# Altium schematic symbol library Schlib1.SchLib: 1 symbol
Pins are listed as number, name and electrical type; pins without a type are passive.

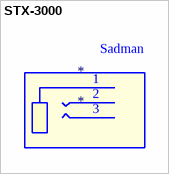
[diagram p0: symbol STX-3000]

## STX-3000
designator *
3 Pole(s), Female, Surface Mount Terminal, Locking, Jack; Manufacturer: Kycon; Connector Type: AUDIO/RCA CONNECTOR; Option: General Purpose; Additional Feature: ROHS COMPLIANT; Board Mounting Option: SOLDERABLE RETENTION CLIPS; Contact Resistance: 60mR; Contact Style: RND PIN-SKT; Dielectric Withstanding Voltage (AC): 350V; Durability: 5000Cycles; Insertion Force-Max: 3.9198N; Insulation Resistance: 100MR; Number Of Connectors: 1; Number of Poles: 3; Polarization Key: POLARIZED HOUSING; Withdrawl Force-Min: 2.9468N; Body Breadth: 0.213inch; Body Depth: 0.551inch; Body Length: 0.283inch; Reference Standard: UL; DIN Conformance: No; Reliability: COMMERCIAL; Supplier: Digikey; Supplier Part Number: 2092-STX-3000-ND; Manufacturer Part Number: STX-3000; RoHS: Yes; Category: Connectors; Stock: 64025; Pricing: 1=0.95, 10=0.727, 25=0.6536, 50=0.6036, 100=0.5579, 250=0.50376, 500=0.46714, 1000=0.4339, 3000=0.38746 (USD); Mounting Technology: Board; Contact Finish - Mating: NOT SPECIFIED; Contact Finish - Termination: MATTE TIN; Min Operating Temperature: -25°C; Max Operating Temperature: 80°C; JESD-609 Code: e3; Body/Shell Style: JACK; Contact Gender: Female; Mounting Style: RIGHT ANGLE; Number of Ports: 1; Termination: SMD/SMT; Mounting Option 1: LOCKING; Terminal Length: 0.11inch; Reach SVHC Compliant: Yes; RoHS Compliant: Yes; IEC Conformance: No; MIL Conformance: No; ComponentLink1URL: https://datasheet.ciiva.com:443/pdfs/VipMasterIC/IC/KYCO/KYCO-S-A0001347542/KYCO-S-A0002374289-1.pdf?src-supplier=IHS+Markit; ComponentLink1Description: https://datasheet.ciiva.com:443/pdfs/VipMasterIC/IC/KYCO/KYCO-S-A0001347542/KYCO-S-A0002374289-1.pdf?src-supplier=IHS+Markit; ComponentLink2URL: https://datasheet.ciiva.com/5053/stx-3000-182293-5053902.pdf?src-supplier=Mouser; ComponentLink2Description: https://datasheet.ciiva.com/5053/stx-3000-182293-5053902.pdf?src-supplier=Mouser
footprint STX-3000
pins: 1, 2, 3
text: Sadman